# Altium footprint library 走马灯PCB.PcbLib: 10 footprints
Each footprint in its own frame and in the unit in brackets; x right, y up, seen from the top. Pads: shape width x height; smd on the part's side, far side on the other; paste and mask are expansions set on the pad; w line width, h text height; cw(c..) or ccw(c..) is an arc to the next point about the centre after c.
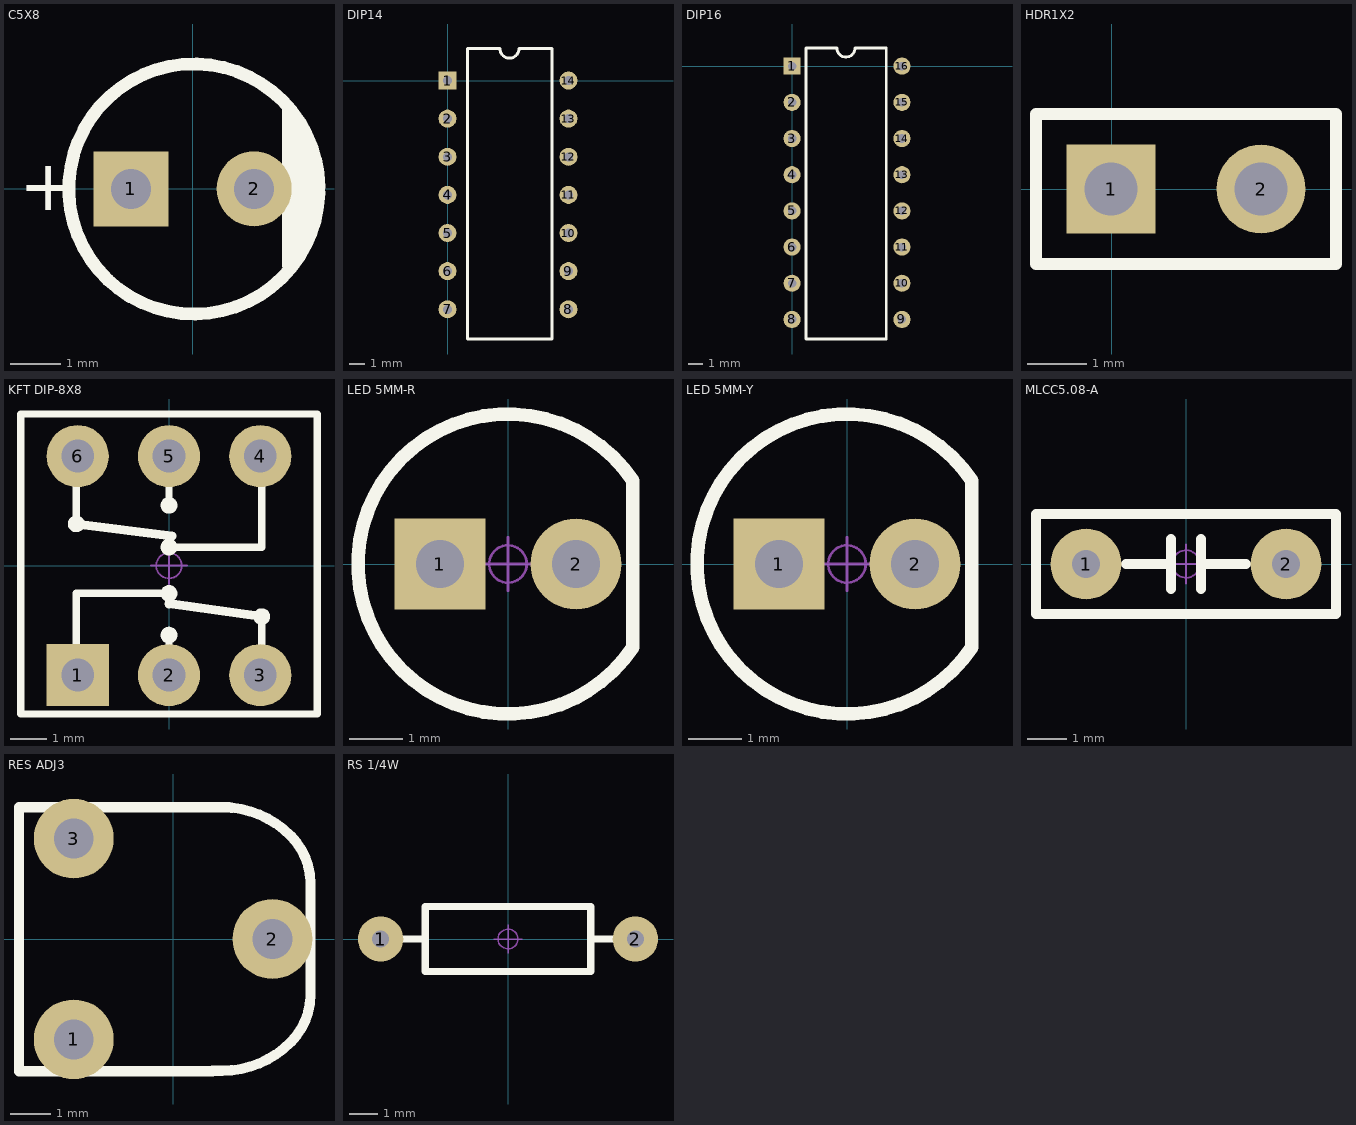
[diagram p0: the footprints below, top view; thin cyan lines are the x and y axes]

## C5X8 [mm] "RB.1/.2"
pads (2):
  rect 1.5x1.5 hole 0.8: 1(-1.231,0)
  round 1.5 hole 0.8: 2(1.231,0)
Top Overlay:
  lines w0.254: 2.526,-0.076 cw(c0.028,-0.004) 2.527,0.037
  lines w0.3: 1.942,-1.524 1.942,1.549
  lines w0.5: 2.196,-0.94 2.196,0.94
  text "+" at -3.468,-0.432 h1.02
3D body "C5x8.STEP": height 8.13, standoff -2.37, extent -2.499,-2.503 2.501,2.489

## DIP14 [mm]
pads (14):
  rect 1.2x1.2 hole 0.6: 1(0,0)
  round 1.2 hole 0.6: 2(0,-2.54) 3(0,-5.08) 4(0,-7.62) 5(0,-10.16) 6(0,-12.7) 7(0,-15.24) 8(8.062,-15.24) 9(8.062,-12.7) 10(8.062,-10.16) 11(8.062,-7.62) 12(8.062,-5.08) 13(8.062,-2.54) 14(8.062,0)
Top Overlay:
  lines w0.2: 1.321,-17.221 1.321,2.134 3.493,2.134 ccw(c4.128,2.134) 4.763,2.134 6.96,2.134 6.96,-17.221 1.321,-17.221
3D body "DIP14.step": height 4.19, standoff -2.67, extent 0.102,-17.12 7.976,1.93

## DIP16 [mm]
pads (16):
  rect 1.2x1.2 hole 0.6: 1(0,0)
  round 1.2 hole 0.6: 2(0,-2.54) 3(0,-5.08) 4(0,-7.62) 5(0,-10.16) 6(0,-12.7) 7(0,-15.24) 8(0,-17.78) 9(7.714,-17.78) 10(7.714,-15.24) 11(7.714,-12.7) 12(7.714,-10.16) 13(7.714,-7.62) 14(7.714,-5.08) 15(7.714,-2.54) 16(7.714,0)
Top Overlay:
  lines w0.2: 0.973,-19.152 6.612,-19.152 6.612,1.27 4.416,1.27 cw(c3.781,1.27) 3.146,1.27 0.973,1.27 0.973,-19.152
3D body "User Library-DIP16-300.step": height 5.08, standoff -2.49, extent -0.168,-18.915 7.702,1.084

## HDR1X2 [mm]
height 1.1
pads (2):
  rect 1.5x1.5 hole 0.9: 1(-0.01,0.007)
  round 1.5 hole 0.9: 2(2.53,0.007)
Top Overlay:
  lines w0.2: -1.28,-1.263 3.8,-1.263 3.8,1.277 -1.28,1.277 -1.28,-1.263
3D body "1x2HDR.stp": height 8.41, standoff -2.52, extent -1.279,-1.261 3.801,1.279

## KFT DIP-8X8 [mm] "自锁开关，规格：8*8mm"
pads (6):
  rect 1.7x1.7 hole 0.9: 1(-2.5,-3)
  round 1.7 hole 0.9: 2(0,-3) 3(2.5,-3) 4(2.5,3) 5(0,3) 6(-2.5,3)
Top Overlay:
  circle w0.254: c0,-0.762 r0.102
  circle w0.254: c0,0.508 r0.102
  circle w0.254: c2.54,-1.397 r0.102
  circle w0.254: c0,-1.905 r0.102
  circle w0.254: c0,1.651 r0.102
  circle w0.254: c-2.54,1.143 r0.102
  lines w0.2: -4.064,-4.064 -4.064,4.153 4.064,4.153 4.064,-4.064 -4.064,-4.064
  lines w0.203: -2.54,-3.048 -2.54,-0.762 0,-0.762 ; -2.54,1.143 -2.54,2.794 ; 0,-3.048 0,-1.771 ; 0,0.508 2.54,0.508 2.54,2.794 ; 0,1.6 0,2.794 ; 2.54,-3.048 2.54,-1.397
  lines w0.254: -2.54,1.143 0.076,0.813 ; 0,-1.041 2.54,-1.397
Mechanical 15:
  circle w0.05: c0,0 r0.35
  lines w0.05: -0.5,0 0.5,0 ; 0,-0.5 0,0.5
3D body "SLSW 8x8.STEP": height 13.1, standoff -3.2, extent -3.949,-3.949 4.051,4.051

## LED 5MM-R [mm] "红色5mm直插LED  淘宝ID:黄晶宝石"
height 10.16
pads (2):
  rect 1.7x1.7 hole 0.9: 1(-1.27,0)
  round 1.7 hole 0.9: 2(1.27,0)
Top Overlay:
  lines w0.254: 2.33,-1.553 cw(c0,0) 2.33,1.553 2.33,-1.553
Mechanical 15:
  circle w0.05: c0,0 r0.35
  lines w0.05: -0.5,0 0.5,0 ; 0,-0.5 0,0.5
3D body "LED 5mm-R.STEP": height 4.5, standoff -3.45, extent -1.983,-0.795 2.076,0.805
3D body "LED 5mm玻璃罩.STEP": height 8.75, standoff 0.05, extent -2.85,-2.85 2.454,2.85

## LED 5MM-Y [mm] "黄色5mm直插LED                       淘宝ID:黄晶宝石"
pads (2):
  rect 1.7x1.7 hole 0.9: 1(-1.27,0)
  round 1.7 hole 0.9: 2(1.27,0)
Top Overlay:
  lines w0.254: 2.33,-1.553 cw(c0,0) 2.33,1.553 2.33,-1.553
Mechanical 15:
  circle w0.05: c0,0 r0.35
  lines w0.05: -0.5,0 0.5,0 ; 0,-0.5 0,0.5
3D body "LED 5mm玻璃罩.STEP": height 8.75, standoff 0.05, extent -2.85,-2.85 2.454,2.85
3D body "LED 5mm-Y.STEP": height 4.5, standoff -3.45, extent -1.983,-0.795 2.076,0.805

## MLCC5.08-A [mm] "独石电容，脚距5.08mm"
pads (2):
  round 1.8 hole 0.7: 1(-2.54,0) 2(2.54,0)
Top Overlay:
  lines w0.254: -1.524,0 -0.381,0 ; -0.381,-0.635 -0.381,0.635 ; 0.381,-0.635 0.381,0.635 ; 0.381,0 1.524,0 ; -3.81,-1.27 3.81,-1.27 3.81,1.27 -3.81,1.27 -3.81,-1.27
Mechanical 15:
  circle w0.05: c0,0 r0.35
  lines w0.05: -0.5,0 0.5,0 ; 0,-0.5 0,0.5
3D body "MLCC5.08-A.STEP": height 3.71, standoff -2.61, extent -2.79,-1.003 2.79,1.003

## RES ADJ3 [mm]
pads (3):
  round 2 hole 1: 1(-2.489,-2.515) 2(2.489,0) 3(-2.489,2.515)
Top Overlay:
  lines w0.254: 0.991,-3.315 -3.861,-3.315 -3.861,3.302 1.397,3.302 ; 0.991,-3.302 1.229,-3.302 ccw(c1.229,-0.874) 2.946,-2.591 ccw(c1.751,-1.395) 3.442,-1.395 3.442,-1.372 ; 0.991,3.302 1.229,3.302 cw(c1.229,0.874) 2.946,2.591 cw(c1.751,1.395) 3.442,1.395 3.442,1.372 ; 3.442,-1.384 3.442,1.384
3D body "PA0630NOXOX-HA1.STEP": height 7.5, standoff -2, extent -3.754,-3.201 3.246,3.199

## RS 1/4W [mm] "直插色环电阻，脚距9mm，直径2.3mm"
pads (2):
  round 1.6 hole 0.6: 1(-4.5,0) 2(4.5,0)
Top Overlay:
  lines w0.254: -3.683,0 -3.048,0 ; 3.048,0 3.683,0 ; -2.921,-1.143 2.921,-1.143 2.921,1.143 -2.921,1.143 -2.921,-1.143
Mechanical 15:
  circle w0.05: c0,0 r0.35
  lines w0.05: -0.5,0 0.5,0 ; 0,-0.5 0,0.5
3D body "RS 1-4W.STEP": height 2.32, standoff -3.49, extent -4.725,-1.16 4.725,1.16